# Altium footprint library Components - 11.11.25 - 07.42.PcbLib: 1 footprints
Each footprint in its own frame and in the unit in brackets; x right, y up, seen from the top. Pads: shape width x height; smd on the part's side, far side on the other; paste and mask are expansions set on the pad; w line width, h text height; cw(c..) or ccw(c..) is an arc to the next point about the centre after c.
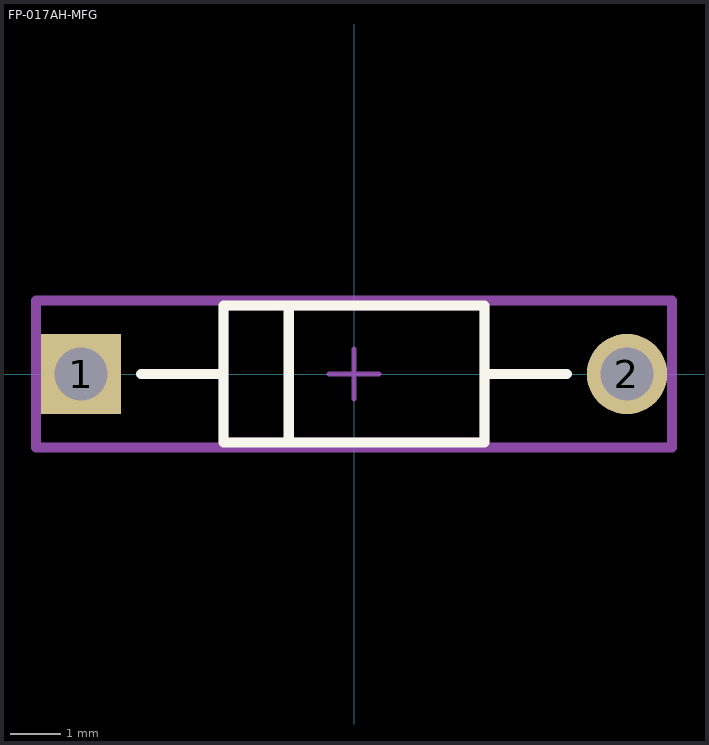
[diagram p0: the footprint, top view; thin cyan lines are the x and y axes]

## FP-017AH-MFG [mm]
pads (2):
  rect 1.6x1.6 hole 1.05 paste-2539.97 mask+0: 1(-5.438,0)
  round 1.6 hole 1.05 paste-2539.97 mask+0: 2(5.438,0)
Top Overlay:
  lines w0.2: -4.238,0 -2.6,0 ; -1.3,-1.29 -1.3,1.29 ; 2.6,0 4.238,0 ; -2.6,-1.36 -2.6,1.36 2.6,1.36 2.6,-1.36 -2.6,-1.36
Top Assembly:
  lines w0.2: -6.338,-1.46 -6.338,1.46 6.338,1.46 6.338,-1.46 -6.338,-1.46
  text ".Designator" at 0,0.188 h1
Top 3D Body:
  lines w0.2: -2.6,-1.36 -2.6,1.36 2.6,1.36 2.6,-1.36 -2.6,-1.36
Top Courtyard:
  lines w0.2: -6.338,-1.46 -6.338,1.46 6.338,1.46 6.338,-1.46 -6.338,-1.46
Top Component Center:
  lines w0.1: -0.5,0 0.5,0 ; 0,-0.5 0,0.5
3D body "Diode_ON_Semiconductor_UF4007_eec.STEP": height 0.25, standoff 0, extent -6.338,-1.46 6.338,1.46